# EAGLE library part RN42 (library KylePile)
Low cost UART bluetooth module
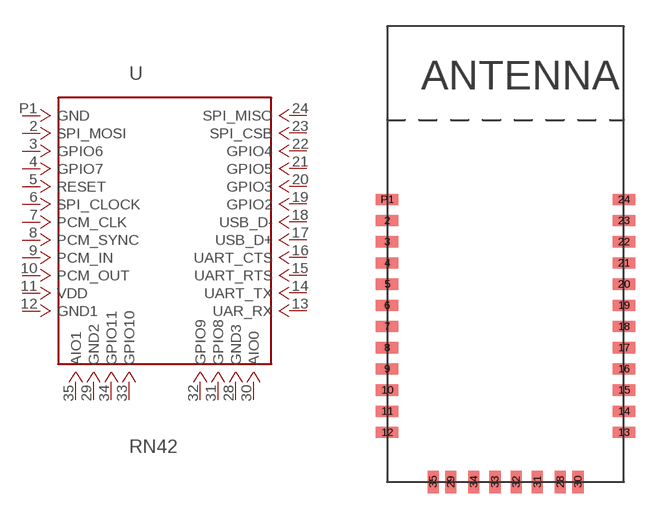
[diagram p17: symbol with the pads of RN42; footprint RN42]

Designator prefix U

## RN42  [RN42]
2  SPI_MOSI
3  GPIO6
4  GPIO7
5  RESET
6  SPI_CLOCK
7  PCM_CLK
8  PCM_SYNC
9  PCM_IN
10  PCM_OUT
11  VDD
12  GND1
13  UAR_RX
14  UART_TX
15  UART_RTS
16  UART_CTS
17  USB_D+
18  USB_D-
19  GPIO2
20  GPIO3
21  GPIO5
22  GPIO4
23  SPI_CSB
24  SPI_MISO
28  GND3
29  GND2
30  AIO0
31  GPIO8
32  GPIO9
33  GPIO10
34  GPIO11
35  AIO1
P1  GND

## Footprint RN42 (pad centres in mm)
RN 42 Bluetooth Module footprint Experimental pads for castellated headers
smd 1.27 x 0.635: 2 0,14.8; 3 0,13.6; 4 0,12.4; 5 0,11.2; 6 0,10; 7 0,8.8; 8 0,7.6; 9 0,6.4; 10 0,5.2; 11 0,4; 12 0,2.8; 13 13.4,2.8; 14 13.4,4; 15 13.4,5.2; 16 13.4,6.4; 17 13.4,7.6; 18 13.4,8.8; 19 13.4,10; 20 13.4,11.2; 21 13.4,12.4; 22 13.4,13.6; 23 13.4,14.8; 24 13.4,16; P1 0,16
smd 0.635 x 1.27: 28 9.8,0; 29 3.6,0; 30 10.8,0; 31 8.5,0; 32 7.3,0; 33 6.1,0; 34 4.9,0; 35 2.6,0